# Altium schematic symbol library ADTT1-1.SchLib: 1 symbol
Pins are listed as number, name and electrical type; pins without a type are passive.

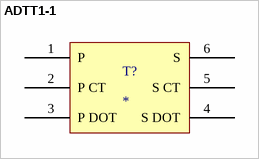
[diagram p0: symbol ADTT1-1]

## ADTT1-1
designator T?
50Ω 0.3 to 300 MHz Surface Mount RF Transformer
footprint ADTT1-1 (RF Transformer)
pins: 1 P, 2 P CT, 3 P DOT, 4 S DOT, 5 S CT, 6 S